# Altium schematic symbol library CAP0805.SchLib: 1 symbol
Pins are listed as number, name and electrical type; pins without a type are passive.

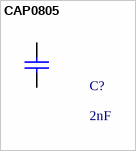
[diagram p0: symbol CAP0805]

## CAP0805
designator C?, comment 2nF
CAP0805
footprint CAP0805
pins: 1, 2